# EAGLE library part LP2C63-ST-RGB-SR0 (library ashield)
1.5W RGB HIGH POWER LED Source: http://www.ledtech.com.tw .. LP2C63-ST-RGB-SR0.SPEC.pdf
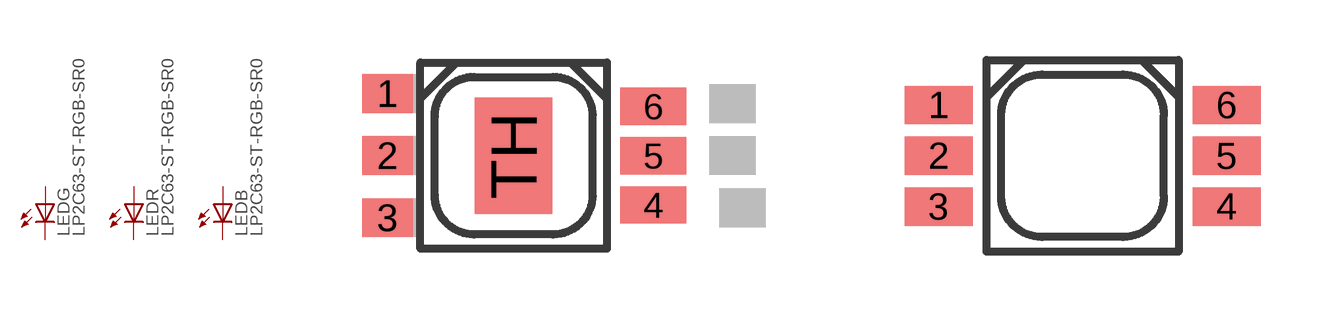
[diagram p6: symbol with the pads of LP2C63-ST-RGB-SR0; footprints LP2C63-ST-RGB-SR0, SMLW56]

Designator prefix LED; gates B=LED G=LED R=LED

## LP2C63-ST-RGB-SR0  [LP2C63-ST-RGB-SR0]
1  G:A  pas
2  R:A  pas
3  B:A  pas
4  B:C  pas
5  R:C  pas
6  G:C  pas

## LP2C63-ST-RGB-SR0SMLW56  [SMLW56]
Pads as for LP2C63-ST-RGB-SR0

## Footprint LP2C63-ST-RGB-SR0 (pad centres in mm)
1.5W RGB HIGH POWER LED LEDTECH ELECTRONICS CORP. Source: LP2C63-ST-RGB-SR0.SPEC.pdf
smd 1.3 x 1: 1 -3.25,1.6; 2 -3.25,0; 3 -3.25,-1.6
smd 1.7 x 0.96: 4 3.6,-1.27; 5 3.6,0; 6 3.6,1.27
smd 2 x 3: TH 0,0

## Footprint SMLW56 (pad centres in mm)
smd 1.7 x 0.96: 1 -3.6,1.27; 2 -3.6,0; 3 -3.6,-1.27; 4 3.6,-1.27; 5 3.6,0; 6 3.6,1.27